# Altium schematic symbol library Battery.SchLib: 4 symbols
Pins are listed as number, name and electrical type; pins without a type are passive.

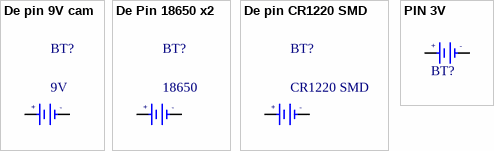
[diagram p0: symbols De pin 9V cam to PIN 3V]

## De pin 9V cam
designator BT?, comment 9V
De Pin 9V; Ten: Hộp Đế Pin 9V Thường; Ma_Hang: MH002680
footprint De Pin 9V
pins: 1 +3V, 2 GND
text: +; -

## De Pin 18650 x2
designator BT?, comment 18650
De Pin 18650 x2; Ten: Hộp Đế Pin 18650 Hàn Mạch DP 18650-HM-02; Ma_Hang: MH010812
footprint DE PIN 18650 X2 (2-cell AA battery holder)
pins: 1 +3V, 2 GND
text: +; -

## De pin CR1220 SMD
designator BT?, comment CR1220 SMD
Ten: Đế PIN CR1220 SMD; Ma_Hang: MH000833
footprint DE PIN CR1220
pins: 1 +3V, 2 GND
text: +; -

## PIN 3V
designator BT?, comment NI-MH 3.6V 20mAh 3/V20H  (value not drawn)
Battery 3VDC , NI-MH 3.6V 20mAh 3/V20H; Value: PIN 3V
footprint PIN 3.6V 20mAh 3/V20H (batttery)
pins: 1 +3V, 2 GND
text: +; -